# Altium schematic symbol library CAP.SchLib: 1 symbol
Pins are listed as number, name and electrical type; pins without a type are passive.

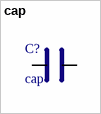
[diagram p0: symbol cap]

## cap
designator C?
footprint cap
pins: 1, 2